# Altium footprint library PrincipalV1_4.PcbLib: 26 footprints (part 1 of 2)
Each footprint in its own frame and in the unit in brackets; x right, y up, seen from the top. Pads: shape width x height; smd on the part's side, far side on the other; paste and mask are expansions set on the pad; w line width, h text height; cw(c..) or ccw(c..) is an arc to the next point about the centre after c.
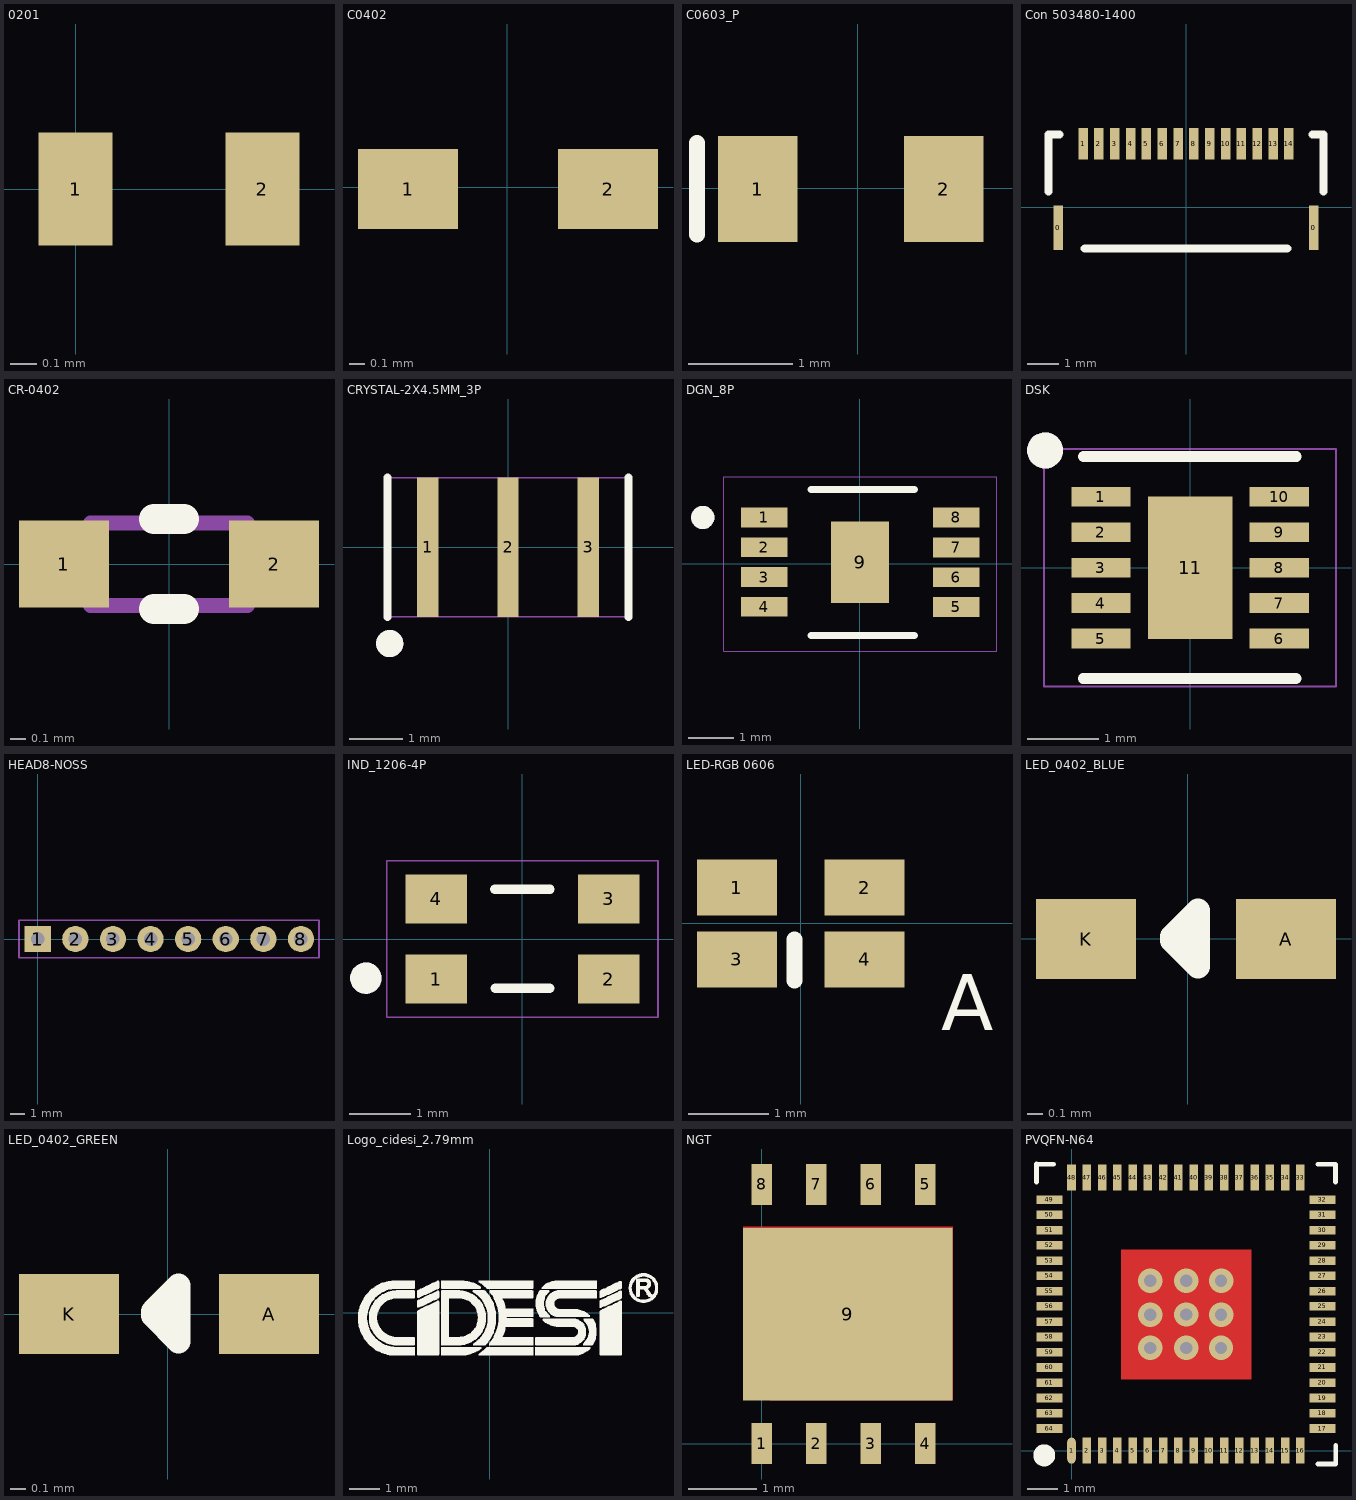
[diagram p0: the footprints below, top view; thin cyan lines are the x and y axes]

## 0201 [mm]
pads (2):
  rect 0.28x0.43 smd: 1(0,0) 2(0.71,0)
3D body: height 0.34, standoff 0, extent 0.014,-0.165 0.694,0.165

## C0402 [mil]
pads (2):
  rect 25x20 smd: 1(-24.83,-0.45) 2(25.17,-0.45)
3D body: height 7.95, standoff 0, extent -19.68,-12.27 19.69,11.35

## C0603_P [mil]
pads (2):
  rect 30x40 smd: 1(-37.62,-0.24) 2(32.38,-0.24)
Top Overlay:
  lines w6: -60.46,-17.27 -60.46,17.02
3D body: height 11.81, standoff 0, extent 15.49,-12.31 29.99,11.49
3D body: height 35.43, standoff 3.94, extent -34.85,-17.22 29.82,16.95
3D body: height 35.83, standoff 35.43, extent -34.92,-17.2 -13.76,16.98
3D body: height 11.81, standoff 0, extent -35.14,-11.97 -20.36,11.82

## Con 503480-1400 [mm]
pads (16):
  rect 0.3x1.4 smd: 0(-4.04,-0.65) 0(4.04,-0.65)
  rect 0.3x1 smd: 1(-3.25,2) 2(-2.75,2) 3(-2.25,2) 4(-1.75,2) 5(-1.25,2) 6(-0.75,2) 7(-0.25,2) 8(0.25,2) 9(0.75,2) 10(1.25,2) 11(1.75,2) 12(2.25,2) 13(2.75,2) 14(3.25,2)
Top Overlay:
  lines w0.254: -4.35,0.5 -4.35,2.3 -4,2.3 ; -3.2,-1.3 3.2,-1.3 ; 4,2.3 4.35,2.3 4.35,0.5
3D body: height 1.88, standoff -0.02, extent -4.35,-1.3 4.35,2.3

## CR-0402 [mm]
pads (2):
  rect 0.6x0.58 smd: 1(-0.7,0) 2(0.7,0)
Top Overlay:
  lines w0.2: -0.1,-0.3 0.1,-0.3 ; -0.1,0.3 0.1,0.3
Mechanical 13:
  lines w0.1: -0.525,-0.275 0.525,-0.275 0.525,0.275 -0.525,0.275 -0.525,-0.275
3D body: height 0.5, standoff 0, extent 0.425,-0.275 0.525,0.275
3D body: height 0.5, standoff 0, extent -0.525,-0.275 -0.425,0.275
3D body: height 0.5, standoff 0, extent -0.425,-0.275 0.425,0.275

## CRYSTAL-2X4.5MM_3P [mm]
pads (3):
  rect 0.4x2.6 smd: 1(-1.5,0) 2(0,0) 3(1.5,0)
Top Overlay:
  circle w0.254: c-2.209,-1.797 r0.127
  lines w0.152: -2.25,-1.3 -2.25,1.3 ; 2.25,-1.3 2.25,1.3
Mechanical 1:
  circle w0.254: c-2.209,-1.797 r0.127
  lines w0.028: -2.25,-1.3 -2.25,1.3 2.25,1.3 2.25,-1.3 -2.25,-1.3
Mechanical 12:
  lines w0.028: -2.25,-1.143 -2.25,1.143 ; 2.25,-1.143 2.25,1.143
3D body: height 1.15, standoff 0, extent -2.228,-0.978 2.272,1.021

## DGN_8P [mil]
pads (9):
  rect 40x17 smd: 1(-82.1,40) 2(-82.1,14.4) 3(-82.1,-11.2) 4(-82.1,-36.8) 5(82.9,-36.9) 6(82.9,-11.3) 7(82.9,14.3) 8(82.9,40)
  rect 50x70 smd: 9(0.2,1.4)
Top Overlay:
  circle w10: c-135,40 r5
  lines w6: -42,-61.63 47,-61.63 ; -41.98,63.96 47.02,63.96
Mechanical 1:
  circle w10: c-135,40 r5
  lines w1: -117,-75 118,-75 118,75 -117,75 -117,-75
3D body: height 37.12, standoff -0.88, extent -94.99,-58.01 98.01,59.99

## DSK [mil]
pads (11):
  rect 33x11.02 smd: 1(-49.5,39.4) 2(-49.5,19.7) 3(-49.5,0) 4(-49.5,-19.7) 5(-49.5,-39.4) 6(49.5,-39.4) 7(49.5,-19.7) 8(49.5,0) 9(49.5,19.7) 10(49.5,39.4)
  rect 47x79 smd: 11(0,0)
Top Overlay:
  circle w10: c-80.57,65.09 r5
  lines w6: -59.31,-61.55 58.8,-61.55 ; -59.16,61.66 58.95,61.66
Mechanical 1:
  circle w10: c-80.57,65.09 r5
  lines w1.1: -81,-66 81,-66 81,66 -81,66 -81,-66
3D body: height 7.87, standoff 0, extent -25.3,-41.18 25.17,40.73
3D body: height 7.87, standoff 0, extent 33.02,32.84 61.35,45.89
3D body: height 7.87, standoff 0, extent 32.98,13.07 61.31,26.12
3D body: height 7.87, standoff 0, extent 32.99,-26.31 61.32,-13.26
3D body: height 7.87, standoff 0, extent 33.03,-6.54 61.36,6.51
3D body: height 7.87, standoff 0, extent 32.91,-46.02 61.24,-32.97
3D body: height 7.87, standoff 0, extent -61.4,-45.97 -33.07,-32.92
3D body: height 7.87, standoff 0, extent -61.25,-6.48 -32.92,6.57
3D body: height 7.87, standoff 0, extent -61.29,-26.25 -32.96,-13.2
3D body: height 7.87, standoff 0, extent -61.3,13.12 -32.97,26.17
3D body: height 7.87, standoff 0, extent -61.26,32.9 -32.93,45.94
3D body: height 41.34, standoff 1.97, extent -61.24,-57.18 61.22,55.56

## HEAD8-NOSS [mil] "HEAD15-NOSS"
pads (8):
  rect 70x70 hole 36: 1(0,0)
  round 70 hole 36: 2(100,0) 3(200,0) 4(300,0) 5(400,0) 6(500,0) 7(600,0) 8(700,0)
Mechanical 16:
  lines w5: -50,-50 -50,50 748.03,50 748.03,-50 -50,-50
3D body: height 334.07, standoff -98.21, extent 551.97,-51.18 751.97,48.82
3D body: height 334.07, standoff -98.21, extent 351.97,-51.18 551.97,48.82
3D body: height 334.07, standoff -98.21, extent -48.03,-51.18 151.97,48.82
3D body: height 334.07, standoff -98.21, extent 151.97,-51.18 351.97,48.82

## IND_1206-4P [mm]
pads (4):
  rect 1x0.8 smd: 1(-1.4,-0.65) 2(1.4,-0.65) 3(1.4,0.65) 4(-1.4,0.65)
Top Overlay:
  circle w0.254: c-2.54,-0.635 r0.127
  lines w0.152: -0.446,0.805 0.448,0.805 ; -0.442,-0.798 0.441,-0.798
Mechanical 1:
  circle w0.254: c-2.54,-0.635 r0.127
  lines w0.025: -2.2,-1.27 2.2,-1.27 2.2,1.27 -2.2,1.27 -2.2,-1.27
3D body: height 2.1, standoff 0, extent -1.642,-0.842 1.658,0.858

## LED-RGB 0606 [mm]
pads (4):
  rect 1x0.7 smd: 1(-0.8,0.45) 2(0.8,0.45) 3(-0.8,-0.45) 4(0.8,-0.45)
Top Overlay:
  lines w0.2: -0.076,-0.711 -0.076,-0.203
  text "A" at 1.758,-1.339 h0.7

## LED_0402_BLUE [mil]
pads (2):
  rect 25x20 smd: A(24.6,-0.05) K(-25.4,-0.05)
Top Overlay:
  lines w6: -3.86,-0.47 2.58,-6.91 2.58,7.05 -3.86,0.61 -3.86,-0.47
3D body: height 17.72, standoff 0, extent -21.14,-9.76 18.62,9.92

## LED_0402_GREEN [mil]
pads (2):
  rect 25x20 smd: A(25.26,0.12) K(-24.74,0.12)
Top Overlay:
  lines w6: -3.76,-0.28 2.68,-6.71 2.68,7.24 -3.76,0.81 -3.76,-0.28
3D body: height 17.72, standoff 0, extent -20.49,-9.59 19.28,10.09

## Logo_cidesi_2.79mm [mm]
Top Overlay:
  drawing of 1616 lines, arcs and shapes, not listed

## NGT [mm]
pads (9):
  rect 0.3x0.6 smd: 1(0,0) 2(0.8,0) 3(1.6,0) 4(2.4,0) 5(2.4,3.8) 6(1.6,3.8) 7(0.8,3.8) 8(0,3.8)
  rect 3.07x2.53 smd: 9(1.265,1.897)
Top Layer:
  region: -0.267,3.177 2.805,3.177 2.805,0.643 2.797,0.635 0.248,0.635 0.126,0.637 -0.252,1.018
3D body: height 0.8, standoff 0, extent -0.743,-0.076 3.257,3.924

## PVQFN-N64 [mm]
pads (64):
  oval 0.28x0.85 smd: 1(0,0)
  rect 0.28x0.85 smd: 2(0.5,0) 3(1,0) 4(1.5,0) 5(2,0) 6(2.5,0) 7(3,0) 8(3.5,0) 9(4,0) 10(4.5,0) 11(5,0) 12(5.5,0) 13(6,0) 14(6.5,0) 15(7,0) 16(7.5,0) 33(7.5,8.95) 34(7,8.95) 35(6.5,8.95) 36(6,8.95) 37(5.5,8.95) 38(5,8.95) 39(4.5,8.95) 40(4,8.95) 41(3.5,8.95) 42(3,8.95) 43(2.5,8.95) 44(2,8.95) 45(1.5,8.95) 46(1,8.95) 47(0.5,8.95) 48(0,8.95)
  rect 0.85x0.28 smd: 17(8.225,0.725) 18(8.225,1.225) 19(8.225,1.725) 20(8.225,2.225) 21(8.225,2.725) 22(8.225,3.225) 23(8.225,3.725) 24(8.225,4.225) 25(8.225,4.725) 26(8.225,5.225) 27(8.225,5.725) 28(8.225,6.225) 29(8.225,6.725) 30(8.225,7.225) 31(8.225,7.725) 32(8.225,8.225) 49(-0.725,8.225) 50(-0.725,7.725) 51(-0.725,7.225) 52(-0.725,6.725) 53(-0.725,6.225) 54(-0.725,5.725) 55(-0.725,5.225) 56(-0.725,4.725) 57(-0.725,4.225) 58(-0.725,3.725) 59(-0.725,3.225) 60(-0.725,2.725) 61(-0.725,2.225) 62(-0.725,1.725) 63(-0.725,1.225) 64(-0.725,0.725)
via 2.577,5.57 diameter 0.8 hole 0.4
via 3.76,5.57 diameter 0.8 hole 0.4
via 4.903,5.57 diameter 0.8 hole 0.4
via 2.577,4.455 diameter 0.8 hole 0.4
via 3.758,4.461 diameter 0.8 hole 0.4
via 4.903,4.455 diameter 0.8 hole 0.4
via 4.9,3.367 diameter 0.8 hole 0.4
via 3.76,3.367 diameter 0.8 hole 0.4
via 2.581,3.367 diameter 0.8 hole 0.4
Top Layer:
  rectangle: 1.621,2.328 5.892,6.585
Top Overlay:
  circle w0.5: c-0.894,-0.153 r0.11
  lines w0.152: -1.15,8.806 -1.15,9.394 -1.146,9.39 -0.587,9.39 ; 8.076,-0.438 8.654,-0.438 8.654,0.174 ; 8.076,9.392 8.653,9.392 8.653,8.806
3D body: height 0.63, standoff 0.15, extent -0.889,-0.028 8.276,9.135
3D body: height 0.2, standoff 0, extent -0.902,0.557 -0.554,0.897
3D body: height 0.2, standoff 0, extent -0.902,1.057 -0.554,1.397
3D body: height 0.2, standoff 0, extent -0.902,1.557 -0.554,1.897
3D body: height 0.2, standoff 0, extent -0.902,2.057 -0.554,2.397
3D body: height 0.2, standoff 0, extent -0.902,2.557 -0.554,2.897
3D body: height 0.2, standoff 0, extent -0.902,3.057 -0.554,3.397
3D body: height 0.2, standoff 0, extent -0.902,3.557 -0.554,3.897
3D body: height 0.2, standoff 0, extent -0.902,4.057 -0.554,4.397
3D body: height 0.2, standoff 0, extent -0.902,4.557 -0.554,4.897
3D body: height 0.2, standoff 0, extent -0.902,5.057 -0.554,5.397
3D body: height 0.2, standoff 0, extent -0.902,5.557 -0.554,5.897
3D body: height 0.2, standoff 0, extent -0.902,6.057 -0.554,6.397
3D body: height 0.2, standoff 0, extent -0.902,6.557 -0.554,6.897
3D body: height 0.2, standoff 0, extent -0.902,7.057 -0.554,7.397
3D body: height 0.2, standoff 0, extent -0.902,7.557 -0.554,7.897
3D body: height 0.2, standoff 0, extent -0.902,8.057 -0.554,8.397
3D body: height 0.2, standoff 0, extent -0.175,8.804 0.173,9.144
3D body: height 0.2, standoff 0, extent 0.325,8.804 0.673,9.144
3D body: height 0.2, standoff 0, extent 0.825,8.804 1.173,9.144
3D body: height 0.2, standoff 0, extent 1.325,8.804 1.673,9.144
3D body: height 0.2, standoff 0, extent 1.825,8.804 2.173,9.144
3D body: height 0.2, standoff 0, extent 2.325,8.804 2.673,9.144
3D body: height 0.2, standoff 0, extent 2.825,8.804 3.173,9.144
3D body: height 0.2, standoff 0, extent 3.325,8.804 3.673,9.144
3D body: height 0.2, standoff 0, extent 3.825,8.804 4.173,9.144
3D body: height 0.2, standoff 0, extent 4.325,8.804 4.673,9.144
3D body: height 0.2, standoff 0, extent 4.825,8.804 5.173,9.144
3D body: height 0.2, standoff 0, extent 5.325,8.804 5.673,9.144
3D body: height 0.2, standoff 0, extent 5.825,8.804 6.173,9.144
3D body: height 0.2, standoff 0, extent 6.325,8.804 6.673,9.144
3D body: height 0.2, standoff 0, extent 6.825,8.804 7.173,9.144
3D body: height 0.2, standoff 0, extent 7.325,8.804 7.673,9.144
3D body: height 0.2, standoff 0, extent 7.938,8.053 8.286,8.393
3D body: height 0.2, standoff 0, extent 7.938,7.553 8.286,7.893
3D body: height 0.2, standoff 0, extent 7.938,7.053 8.286,7.393
3D body: height 0.2, standoff 0, extent 7.938,6.553 8.286,6.893
3D body: height 0.2, standoff 0, extent 7.938,6.053 8.286,6.393
3D body: height 0.2, standoff 0, extent 7.938,5.553 8.286,5.893
3D body: height 0.2, standoff 0, extent 7.938,5.053 8.286,5.393
3D body: height 0.2, standoff 0, extent 7.938,4.553 8.286,4.893
3D body: height 0.2, standoff 0, extent 7.938,4.053 8.286,4.393
3D body: height 0.2, standoff 0, extent 7.938,3.553 8.286,3.893
3D body: height 0.2, standoff 0, extent 7.938,3.053 8.286,3.393
3D body: height 0.2, standoff 0, extent 7.938,2.553 8.286,2.893
3D body: height 0.2, standoff 0, extent 7.938,2.053 8.286,2.393
3D body: height 0.2, standoff 0, extent 7.938,1.553 8.286,1.893
3D body: height 0.2, standoff 0, extent 7.938,1.053 8.286,1.393
3D body: height 0.2, standoff 0, extent 7.938,0.553 8.286,0.893
3D body: height 0.2, standoff 0, extent 7.329,-0.043 7.677,0.297
3D body: height 0.2, standoff 0, extent 6.829,-0.043 7.177,0.297
3D body: height 0.2, standoff 0, extent 6.329,-0.043 6.677,0.297
3D body: height 0.2, standoff 0, extent 5.829,-0.043 6.177,0.297
3D body: height 0.2, standoff 0, extent 5.329,-0.043 5.677,0.297
3D body: height 0.2, standoff 0, extent 4.829,-0.043 5.177,0.297
3D body: height 0.2, standoff 0, extent 4.329,-0.043 4.677,0.297
3D body: height 0.2, standoff 0, extent 3.829,-0.043 4.177,0.297
3D body: height 0.2, standoff 0, extent 3.329,-0.043 3.677,0.297
3D body: height 0.2, standoff 0, extent 2.829,-0.043 3.177,0.297
3D body: height 0.2, standoff 0, extent 2.329,-0.043 2.677,0.297
3D body: height 0.2, standoff 0, extent 1.829,-0.043 2.177,0.297
3D body: height 0.2, standoff 0, extent 1.329,-0.043 1.677,0.297
3D body: height 0.2, standoff 0, extent 0.829,-0.043 1.177,0.297
3D body: height 0.2, standoff 0, extent 0.329,-0.043 0.677,0.297
3D body: height 0.2, standoff 0, extent -0.171,-0.043 0.177,0.297